# EAGLE library part TPS54308 (library Spaceshot_Custom)
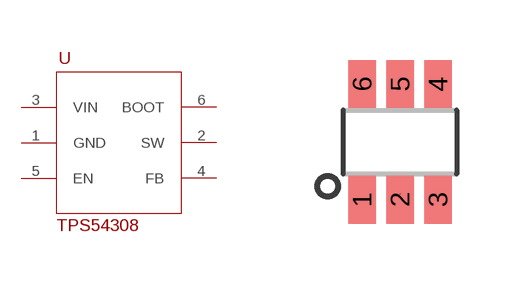
[diagram p0: symbol with the pads of SOT-23-6; footprint SOT-23-6]

Designator prefix -

## TPS54308  [SOT-23-6]
1  GND
2  SW
3  VIN  in
4  FB
5  EN  in
6  BOOT

## Footprint SOT-23-6 (pad centres in mm)
DBV (R-PDSO-G6) PLASTIC SMALL-OUTLINE PACKAGE SOT (SOT-23) - DBV Source: http://focus.ti.com/lit/ds/symlink/sn74lvc1g3157.
smd 0.69 x 1.2: 1 -0.95,-1.44; 2 0,-1.44; 3 0.95,-1.44; 4 0.95,1.45; 5 0,1.45; 6 -0.95,1.45